# Altium footprint library Sensor_Sony.PcbLib: 1 footprints
Each footprint in its own frame and in the unit in brackets; x right, y up, seen from the top. Pads: shape width x height; smd on the part's side, far side on the other; paste and mask are expansions set on the pad; w line width, h text height; cw(c..) or ccw(c..) is an arc to the next point about the centre after c.
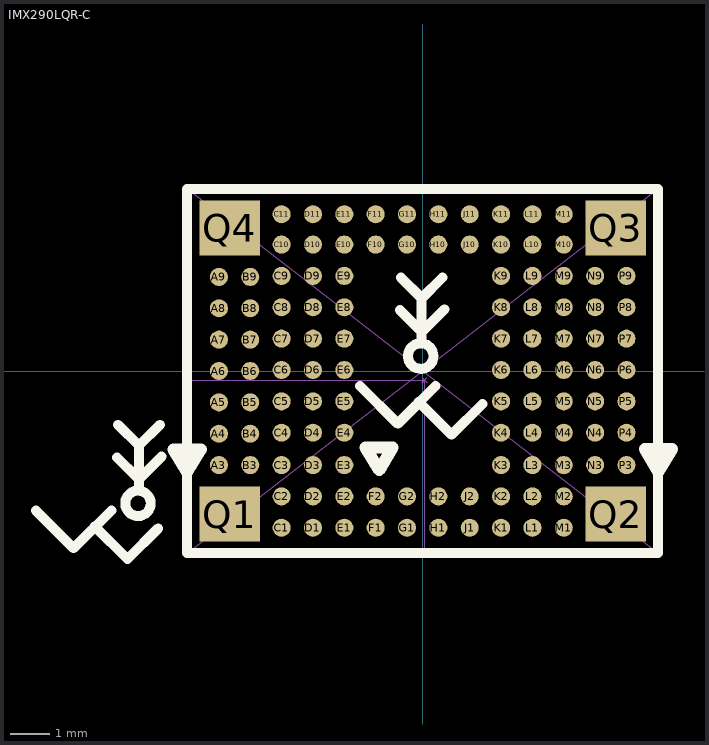
[diagram p0: the footprint, top view; thin cyan lines are the x and y axes]

## IMX290LQR-C [mm] "Sony IMX290LQR Image senor"
pads (114):
  round 0.46 smd: A3(-5.2,-2.4) A4(-5.2,-1.6) A5(-5.2,-0.8) A6(-5.2,0) A7(-5.2,0.8) A8(-5.2,1.6) A9(-5.2,2.4) B3(-4.4,-2.4) B4(-4.4,-1.6) B5(-4.4,-0.8) B6(-4.4,0) B7(-4.4,0.8) B8(-4.4,1.6) B9(-4.4,2.4) C1(-3.6,-4) C2(-3.6,-3.2) C3(-3.6,-2.4) C4(-3.6,-1.574) C5(-3.6,-0.774) C6(-3.6,0.026) C7(-3.6,0.826) C8(-3.6,1.626) C9(-3.6,2.426) C10(-3.6,3.226) C11(-3.6,4) D1(-2.8,-4) D2(-2.8,-3.2) D3(-2.8,-2.4) D4(-2.8,-1.574) D5(-2.8,-0.774) D6(-2.8,0.026) D7(-2.8,0.826) D8(-2.8,1.626) D9(-2.8,2.426) D10(-2.8,3.226) D11(-2.8,4) E1(-2,-4) E2(-2,-3.2) E3(-2,-2.4) E4(-2,-1.574) E5(-2,-0.774) E6(-2,0.026) E7(-2,0.826) E8(-2,1.626) E9(-2,2.426) E10(-2,3.226) E11(-2,4) F1(-1.2,-4) F2(-1.2,-3.2) F10(-1.2,3.226) F11(-1.2,4) G1(-0.4,-4) G2(-0.4,-3.2) G10(-0.4,3.226) G11(-0.4,4) H1(0.4,-4) H2(0.4,-3.2) H10(0.4,3.226) H11(0.4,4) J1(1.2,-4) J2(1.2,-3.2) J10(1.2,3.226) J11(1.2,4) K1(2,-4) K2(2,-3.2) K3(2,-2.4) K4(2,-1.574) K5(2,-0.774) K6(2,0.026) K7(2,0.826) K8(2,1.626) K9(2,2.426) K10(2,3.226) K11(2,4) L1(2.8,-4) L2(2.8,-3.2) L3(2.8,-2.4) L4(2.8,-1.574) L5(2.8,-0.774) L6(2.8,0.026) L7(2.8,0.826) L8(2.8,1.626) L9(2.8,2.426) L10(2.8,3.226) L11(2.8,4) M1(3.6,-4) M2(3.6,-3.2) M3(3.6,-2.4) M4(3.6,-1.574) M5(3.6,-0.774) M6(3.6,0.026) M7(3.6,0.826) M8(3.6,1.626) M9(3.6,2.426) M10(3.6,3.226) M11(3.6,4) N3(4.4,-2.4) N4(4.4,-1.574) N5(4.4,-0.774) N6(4.4,0.026) N7(4.4,0.826) N8(4.4,1.626) N9(4.4,2.426) P3(5.2,-2.4) P4(5.2,-1.574) P5(5.2,-0.774) P6(5.2,0.026) P7(5.2,0.826) P8(5.2,1.626) P9(5.2,2.426)
  rect 1.55x1.4 smd: Q1(-4.925,-3.65) Q2(4.925,-3.65) Q3(4.925,3.65) Q4(-4.925,3.65)
Top Overlay:
  circle w0.254: c-7.264,-3.378 r0.325
  circle w0.254: c-0.051,0.381 r0.325
  lines w0.02: -6.007,-4.65 0.051,-4.65
  lines w0.254: -9.872,-3.557 -8.907,-4.522 -7.942,-3.557 ; -8.373,-3.963 -7.535,-4.801 -6.748,-4.014 ; -7.797,-2.204 -7.264,-2.737 ; -7.772,-1.372 -7.239,-1.905 ; -7.239,-3.023 -7.239,-1.956 -7.239,-1.905 ; -7.194,-2.717 -6.661,-2.184 ; -6.706,-1.372 -7.239,-1.905 ; -6.02,4.648 -6.02,-4.648 6.007,-4.648 6.007,4.648 -6.007,4.648 ; -1.6,-0.381 -0.635,-1.346 0.33,-0.381 ; -0.584,1.555 -0.05,1.022 ; -0.559,2.388 -0.025,1.854 ; -0.102,-0.787 0.737,-1.626 1.524,-0.838 ; -0.025,0.737 -0.025,1.803 -0.025,1.854 ; 0.02,1.042 0.553,1.575 ; 0.508,2.388 -0.025,1.854
  lines w0.305: -6.361,-1.998 -5.661,-1.998 -6.016,-2.582 -6.361,-1.998 ; -1.464,-1.947 -0.764,-1.948 -1.109,-2.531 -1.464,-1.947 ; 5.666,-1.99 6.366,-1.99 6.011,-2.574 5.666,-1.99
Mechanical 1:
  lines w0.02: -0.014,-0.177 0.114,-0.295 ; -0.009,-0.3 0.109,-0.172
Mechanical 15:
  lines w0.02: -6.008,4.648 6.008,-4.648 ; 0.051,-4.65 0.051,-0.235 -6.007,-0.235 -6.007,-4.65 6.007,4.648
3D body: height 1.02, standoff 0, extent -6.007,-4.648 6.007,4.648
3D body: height 1.52, standoff 0, extent -5.753,-4.401 5.753,4.402